# EAGLE library part IC_DG9051 (library akita)
1x8 analog multiplexer
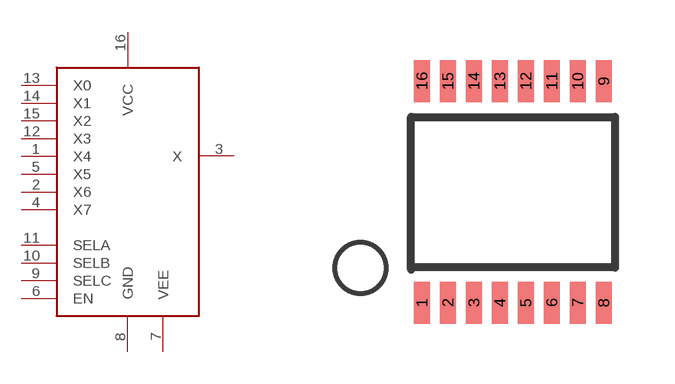
[diagram p15: symbol with the pads of TSSOP16; footprint TSSOP16]

Designator prefix -

## IC_DG9051  [TSSOP16]
1  X4  pas
2  X6  pas
3  X  pas
4  X7  pas
5  X5  pas
6  EN  in
7  VEE  pwr
8  GND  pwr
9  SELC  in
10  SELB  in
11  SELA  in
12  X3  pas
13  X0  pas
14  X1  pas
15  X2  pas
16  VCC  pwr

## Footprint TSSOP16 (pad centres in mm)
smd 0.4 x 1.05: 1 -2.275,-2.775; 2 -1.625,-2.775; 3 -0.975,-2.775; 4 -0.325,-2.775; 5 0.325,-2.775; 6 0.975,-2.775; 7 1.625,-2.775; 8 2.275,-2.775; 9 2.275,2.775; 10 1.625,2.775; 11 0.975,2.775; 12 0.325,2.775; 13 -0.325,2.775; 14 -0.975,2.775; 15 -1.625,2.775; 16 -2.275,2.775